# Altium integrated library 691305340003.IntLib: 2 symbols
Pins are listed as number, name and electrical type; pins without a type are passive.

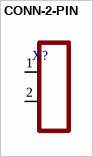
[diagram p0: symbol CONN-2-PIN]

## CONN-2-PIN
designator X?
footprint 691305340002
pins: 1, 2


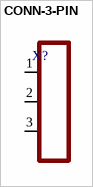
[diagram p1: symbol CONN-3-PIN]

## CONN-3-PIN
designator X?
footprint 691305340003
pins: 1, 2, 3